# Altium footprint library CK Switch.PcbLib: 2 footprints
Each footprint in its own frame and in the unit in brackets; x right, y up, seen from the top. Pads: shape width x height; smd on the part's side, far side on the other; paste and mask are expansions set on the pad; w line width, h text height; cw(c..) or ccw(c..) is an arc to the next point about the centre after c.
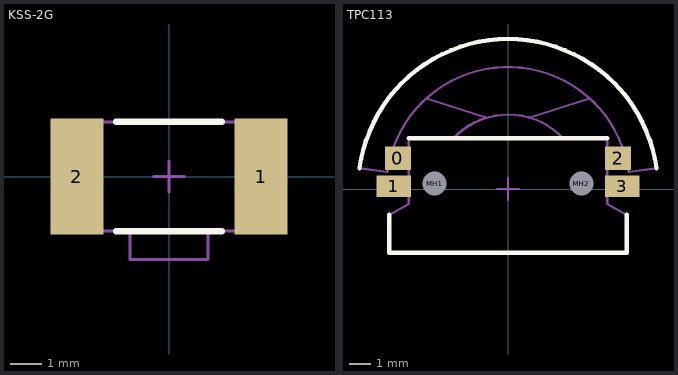
[diagram p0: the footprints below, top view; thin cyan lines are the x and y axes]

## KSS-2G [mm] "Switch, Side Tact, SM; 2 Leads; Body 7x3.5mm (LxW)"
height 1.75
pads (2):
  rect 1.7x3.7 smd: 1(2.95,0) 2(-2.95,0)
Top Overlay:
  lines w0.2: -1.7,-1.75 1.7,-1.75 ; -1.7,1.75 1.7,1.75
Mechanical 13:
  lines w0.1: -2.75,-1.75 -2.75,1.75 2.75,1.75 2.75,-1.75 1.25,-1.75 1.25,-2.65 -1.25,-2.65 -1.25,-1.75 -2.75,-1.75
Mechanical 15:
  lines w0.1: -0.5,0 0.5,0 ; 0,-0.5 0,0.5
3D body: height 1.75, standoff 0, extent -2.749,-2.649 2.749,1.749

## TPC113 [mm] "Switch, Side 3-Way, SM; 4 Leads; Body 13.8x10.55mm (LxW)"
height 1.65
pads (6):
  rect 1.2x1.1 smd: 0(-5.1,1.425) 2(5.1,1.425)
  rect 1.6x1 smd: 1(-5.3,0.125) 3(5.3,0.125)
  round 0.8 hole 1.1: MH1(-3.4,0.25) MH2(3.4,0.25)
Top Overlay:
  lines w0.2: -6.883,0.96 cw(c0,0) 6.883,0.96 ; -5.5,-1.2 -5.5,-2.95 5.5,-2.95 5.5,-1.2 ; -4.6,2.35 4.6,2.35
Mechanical 13:
  lines w0.1: -3.788,4.192 ccw(c0,0) -5.596,0.781 ; -3.787,4.196 -1.012,3.304 ; -2.552,2.35 cw(c-0.026,0) -1.012,3.306 ; -2.5,2.35 cw(c0.026,0) 2.552,2.35 ; 1.012,3.304 3.787,4.196 ; -5.596,0.781 cw(c0,0) 5.596,0.781 6.883,0.96 ccw(c0,0) -6.883,0.96 -5.596,0.781 ; -5.5,-2.95 -5.5,-1.2 -4.6,-0.7 -4.6,2.35 4.6,2.35 4.6,-0.7 5.5,-1.2 5.5,-2.95 -5.5,-2.95
Mechanical 15:
  lines w0.1: -0.5,0 0.5,0 ; 0,-0.5 0,0.5
3D body: height 1.65, standoff 0, extent -6.884,-2.951 6.884,6.947